# Altium schematic symbol library SCH - MCU - NUVOTON - NUVOTON NANO103SD3AE.SchLib: 1 symbol
Pins are listed as number, name and electrical type; pins without a type are passive.

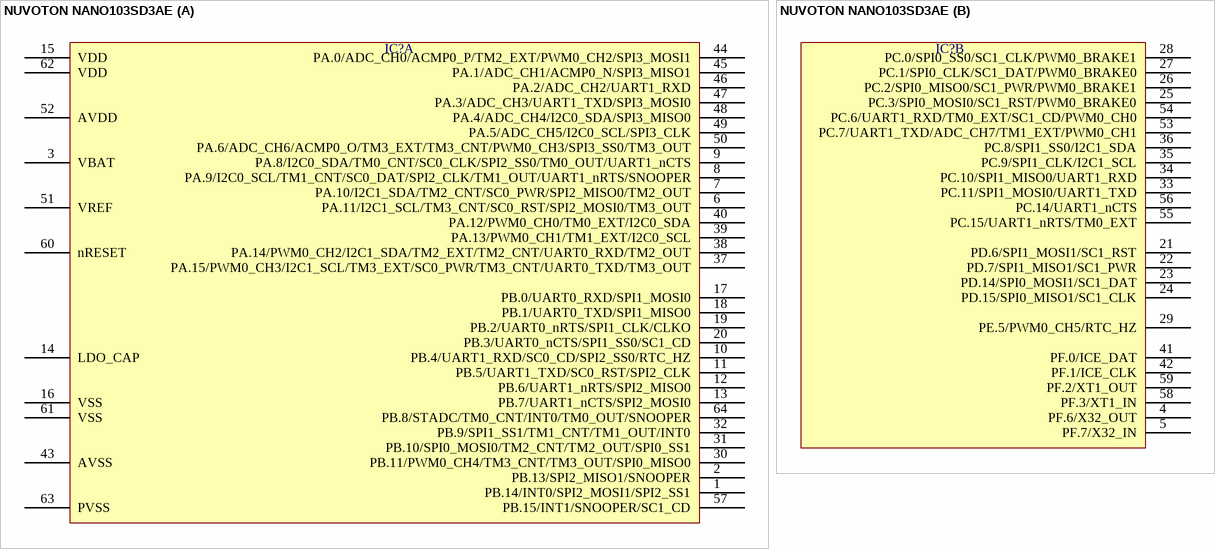
[diagram p0: symbol NUVOTON NANO103SD3AE]

## NUVOTON NANO103SD3AE
designator IC?  (value not drawn)
part A pins: 1 PB.14/INT0/SPI2_MOSI1/SPI2_SS1, 2 PB.13/SPI2_MISO1/SNOOPER, 3 VBAT, 6 PA.11/I2C1_SCL/TM3_CNT/SC0_RST/SPI2_MOSI0/TM3_OUT, 7 PA.10/I2C1_SDA/TM2_CNT/SC0_PWR/SPI2_MISO0/TM2_OUT, 8 PA.9/I2C0_SCL/TM1_CNT/SC0_DAT/SPI2_CLK/TM1_OUT/UART1_nRTS/SNOOPER, 9 PA.8/I2C0_SDA/TM0_CNT/SC0_CLK/SPI2_SS0/TM0_OUT/UART1_nCTS, 10 PB.4/UART1_RXD/SC0_CD/SPI2_SS0/RTC_HZ, 11 PB.5/UART1_TXD/SC0_RST/SPI2_CLK, 12 PB.6/UART1_nRTS/SPI2_MISO0, 13 PB.7/UART1_nCTS/SPI2_MOSI0, 14 LDO_CAP, 15 VDD, 16 VSS, 17 PB.0/UART0_RXD/SPI1_MOSI0, 18 PB.1/UART0_TXD/SPI1_MISO0, 19 PB.2/UART0_nRTS/SPI1_CLK/CLKO, 20 PB.3/UART0_nCTS/SPI1_SS0/SC1_CD, 30 PB.11/PWM0_CH4/TM3_CNT/TM3_OUT/SPI0_MISO0, 31 PB.10/SPI0_MOSI0/TM2_CNT/TM2_OUT/SPI0_SS1, 32 PB.9/SPI1_SS1/TM1_CNT/TM1_OUT/INT0, 37 PA.15/PWM0_CH3/I2C1_SCL/TM3_EXT/SC0_PWR/TM3_CNT/UART0_TXD/TM3_OUT, 38 PA.14/PWM0_CH2/I2C1_SDA/TM2_EXT/TM2_CNT/UART0_RXD/TM2_OUT, 39 PA.13/PWM0_CH1/TM1_EXT/I2C0_SCL, 40 PA.12/PWM0_CH0/TM0_EXT/I2C0_SDA, 43 AVSS, 44 PA.0/ADC_CH0/ACMP0_P/TM2_EXT/PWM0_CH2/SPI3_MOSI1, 45 PA.1/ADC_CH1/ACMP0_N/SPI3_MISO1, 46 PA.2/ADC_CH2/UART1_RXD, 47 PA.3/ADC_CH3/UART1_TXD/SPI3_MOSI0, 48 PA.4/ADC_CH4/I2C0_SDA/SPI3_MISO0, 49 PA.5/ADC_CH5/I2C0_SCL/SPI3_CLK, 50 PA.6/ADC_CH6/ACMP0_O/TM3_EXT/TM3_CNT/PWM0_CH3/SPI3_SS0/TM3_OUT, 51 VREF, 52 AVDD, 57 PB.15/INT1/SNOOPER/SC1_CD, 60 nRESET, 61 VSS, 62 VDD, 63 PVSS, 64 PB.8/STADC/TM0_CNT/INT0/TM0_OUT/SNOOPER
part B pins: 4 PF.6/X32_OUT, 5 PF.7/X32_IN, 21 PD.6/SPI1_MOSI1/SC1_RST, 22 PD.7/SPI1_MISO1/SC1_PWR, 23 PD.14/SPI0_MOSI1/SC1_DAT, 24 PD.15/SPI0_MISO1/SC1_CLK, 25 PC.3/SPI0_MOSI0/SC1_RST/PWM0_BRAKE0, 26 PC.2/SPI0_MISO0/SC1_PWR/PWM0_BRAKE1, 27 PC.1/SPI0_CLK/SC1_DAT/PWM0_BRAKE0, 28 PC.0/SPI0_SS0/SC1_CLK/PWM0_BRAKE1, 29 PE.5/PWM0_CH5/RTC_HZ, 33 PC.11/SPI1_MOSI0/UART1_TXD, 34 PC.10/SPI1_MISO0/UART1_RXD, 35 PC.9/SPI1_CLK/I2C1_SCL, 36 PC.8/SPI1_SS0/I2C1_SDA, 41 PF.0/ICE_DAT, 42 PF.1/ICE_CLK, 53 PC.7/UART1_TXD/ADC_CH7/TM1_EXT/PWM0_CH1, 54 PC.6/UART1_RXD/TM0_EXT/SC1_CD/PWM0_CH0, 55 PC.15/UART1_nRTS/TM0_EXT, 56 PC.14/UART1_nCTS, 58 PF.3/XT1_IN, 59 PF.2/XT1_OUT